# EAGLE library part 74AC04MTC (library Fairchild_By_element14_Batch_1)
Hex Inverter
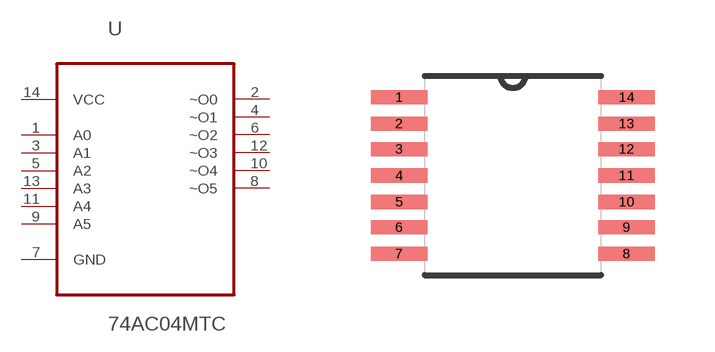
[diagram p7: symbol with the pads of SOP65P640X120-14N; footprint SOP65P640X120-14N]

Designator prefix U

## 74AC04MTC (MPN: 74AC04MTC; OC_FARNELL: 1607734; OC_NEWARK: 58K3221; PACKAGE: TSSOP-14; SUPPLIER: FAIRCHILD)  [SOP65P640X120-14N]
1  A0  in
2  ~O0  out
3  A1  in
4  ~O1  out
5  A2  in
6  ~O2  out
7  GND  pas
8  ~O5  out
9  A5  in
10  ~O4  out
11  A4  in
12  ~O3  out
13  A3  in
14  VCC  pwr

## Footprint SOP65P640X120-14N (pad centres in mm)
smd 1.422 x 0.356: 1 -2.845,1.956; 2 -2.845,1.295; 3 -2.845,0.66; 4 -2.845,0; 5 -2.845,-0.66; 6 -2.845,-1.295; 7 -2.845,-1.956; 8 2.845,-1.956; 9 2.845,-1.295; 10 2.845,-0.66; 11 2.845,0; 12 2.845,0.66; 13 2.845,1.295; 14 2.845,1.956